# EAGLE library part MOLEX_SL_33 (library molex-sl-connectors_jw)
Molex SL-Series PCB Header, 33-Pos, 0.1" (2.54mm) Centers
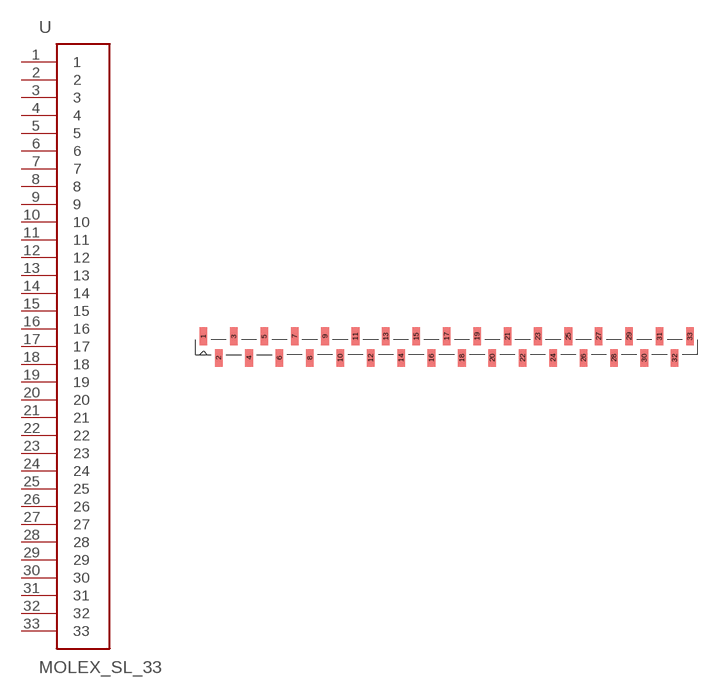
[diagram p27: symbol with the pads of SL_87898_33; footprint SL_87898_33]

Designator prefix -

## MOLEX_SL_33-87898  [SL_87898_33]
1  1
2  2
3  3
4  4
5  5
6  6
7  7
8  8
9  9
10  10
11  11
12  12
13  13
14  14
15  15
16  16
17  17
18  18
19  19
20  20
21  21
22  22
23  23
24  24
25  25
26  26
27  27
28  28
29  29
30  30
31  31
32  32
33  33

## Footprint SL_87898_33 (pad centres in mm)
SMD Vertical Header (no latch or pegs) Package also includes Pick-N-Place Cap Tube packaging w/o Pick-N-Place Cap: 87898-3321 87898-3322 87898-3324 87898-3325 87898-3326 Tube packaging w/ Pick-N-Place Cap: 87898-3331 87898-3332 87898-3334 87898-3335 87898-3336
smd 1.27 x 2.946: 1 -40.64,1.803; 2 -38.1,-1.803; 3 -35.56,1.803; 4 -33.02,-1.803; 5 -30.48,1.803; 6 -27.94,-1.803; 7 -25.4,1.803; 8 -22.86,-1.803; 9 -20.32,1.803; 10 -17.78,-1.803; 11 -15.24,1.803; 12 -12.7,-1.803; 13 -10.16,1.803; 14 -7.62,-1.803; 15 -5.08,1.803; 16 -2.54,-1.803; 17 0,1.803; 18 2.54,-1.803; 19 5.08,1.803; 20 7.62,-1.803; 21 10.16,1.803; 22 12.7,-1.803; 23 15.24,1.803; 24 17.78,-1.803; 25 20.32,1.803; 26 22.86,-1.803; 27 25.4,1.803; 28 27.94,-1.803; 29 30.48,1.803; 30 33.02,-1.803; 31 35.56,1.803; 32 38.1,-1.803; 33 40.64,1.803